# Altium schematic symbol library L_7210-221K.SchLib: 1 symbol
Pins are listed as number, name and electrical type; pins without a type are passive.

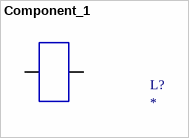
[diagram p0: symbol Component_1]

## Component_1
designator L?
power inductor
footprint PCBComponent_1
pins: 1, 2